# Altium footprint library New_Parts.PcbLib: 2 footprints
Each footprint in its own frame and in the unit in brackets; x right, y up, seen from the top. Pads: shape width x height; smd on the part's side, far side on the other; paste and mask are expansions set on the pad; w line width, h text height; cw(c..) or ccw(c..) is an arc to the next point about the centre after c.
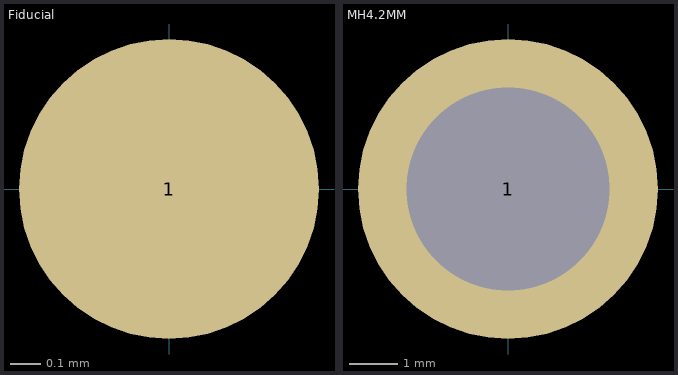
[diagram p0: the footprints below, top view; thin cyan lines are the x and y axes]

## Fiducial [mm] "Fiducial, 1mm"
pads (1):
  round 1 smd paste-2 mask+0.5: 1(0,0)

## MH4.2MM [mm] "Mounting Hole, 4.2mm"
pads (1):
  round 6.2 hole 4.2: 1(0,0)